# EAGLE library part 61300825721 (library Eagle_BOARD-TO-BOARD_CONNECTORS (rev18b))
WR-PHD 2.54mm Dual Socket Header Bottom Entry, 8 Pins =>Code : Con_BTB_SHD_2.54_2_61300825721 <http://katalog.we-online.de/media/images/eican/Con_BTB_SHD_2.54_2_6130xx25721_pf2.jpg> Details see: http://katalog.we-online.de/en/em/613_0xx_257_21 Created 2014-05-30, Karrer Zheng 2014 (C) Würth Elektronik
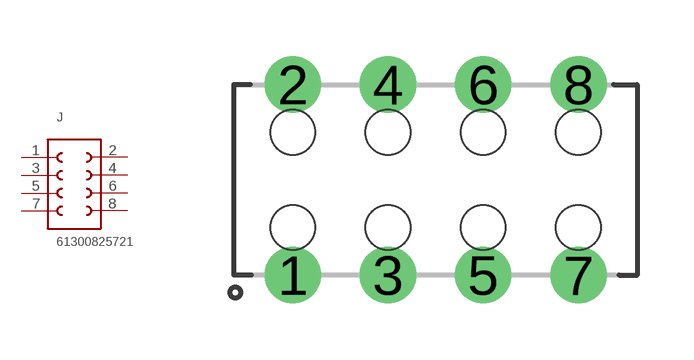
[diagram p153: symbol with the pads of 61300825721; footprint 61300825721]

Designator prefix J

## 61300825721  [61300825721]
1  1  pas
2  8  pas
3  2  pas
4  7  pas
5  3  pas
6  6  pas
7  4  pas
8  5  pas

## Footprint 61300825721 (pad centres in mm)
WR-PHD 2.54mm Dual Socket Header Bottom Entry, 8 Pins
drill 1 pad 1.4: 1 -3.81,-2.54; 2 -3.81,2.54; 3 -1.27,-2.54; 4 -1.27,2.54; 5 1.27,-2.54; 6 1.27,2.54; 7 3.81,-2.54; 8 3.81,2.54
hole 1.2 at -3.81,1.27
hole 1.2 at -1.27,1.27
hole 1.2 at -1.27,-1.27
hole 1.2 at -3.81,-1.27
hole 1.2 at 1.27,-1.27
hole 1.2 at 1.27,1.27
hole 1.2 at 3.81,1.27
hole 1.2 at 3.81,-1.27